# EAGLE library part A4988BREAKOUT (library e1)
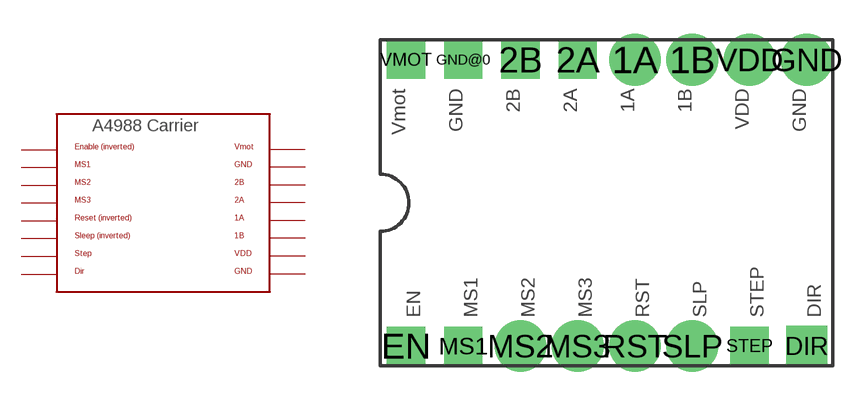
[diagram p0: symbol with the pads of A4988BREAKOUT; footprint A4988BREAKOUT]

Designator prefix -

## A4988BREAKOUT  [A4988BREAKOUT]
1A  1A  out
1B  1B  out
2A  2A  out
2B  2B  out
DIR  DIR  in
EN  EN  in
GND  GND  pwr
GND@0  GND  pwr
MS1  MS1  in
MS2  MS2  in
MS3  MS3  in
RST  RST  in
SLP  SLEEP  in
STEP  STEP  in
VDD  VDD  pwr
VMOT  VMOT  pwr

## Footprint A4988BREAKOUT (pad centres in mm)
drill 0.9 pad 2.3: 1A 8.89,1.27; 1B 11.43,1.27; GND 16.51,1.27; MS2 3.81,-11.43; MS3 6.35,-11.43; RST 8.89,-11.43; SLP 11.43,-11.43; VDD 13.97,1.27
drill 0.9 pad 1.7 square: 2A 6.35,1.27; 2B 3.81,1.27; EN -1.27,-11.43; GND@0 1.27,1.27; MS1 1.27,-11.43; STEP 13.97,-11.43; VMOT -1.27,1.27
drill 0.9 pad 1.8 square: DIR 16.51,-11.43